# Altium integrated library Nhúng.IntLib: 12 symbols
Pins are listed as number, name and electrical type; pins without a type are passive.

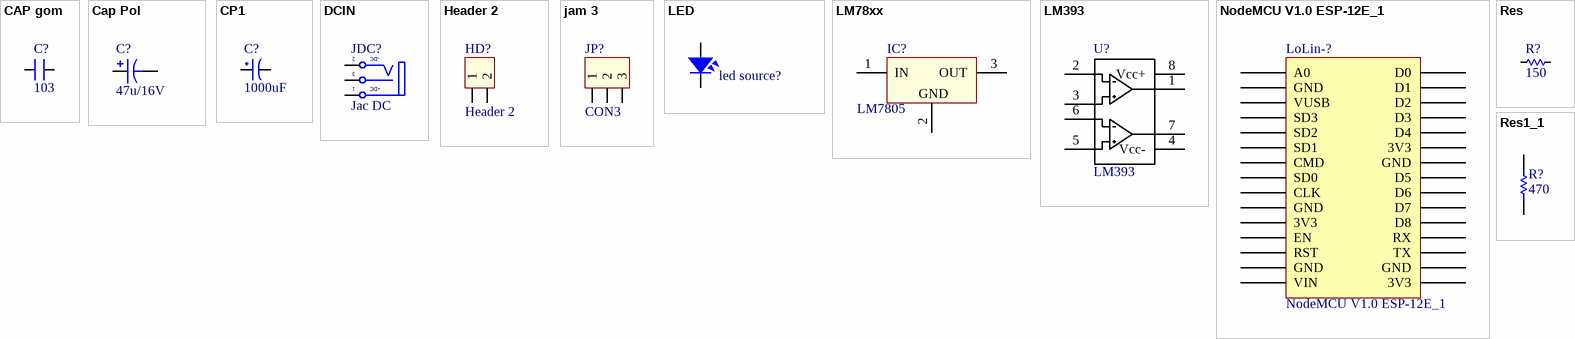
[diagram p0: symbols CAP gom to Res1_1]

## CAP gom
designator C?, comment 103
footprint CN1
footprint CN1.5
footprint CN2
footprint CN3 (Cap np W 0.3)
footprint CN4 (Cap np W 0.4)
footprint CN (Tu loc 220)
footprint CN2.5 (Tu pin to pin 250mil)
pins: 1, 2

## Cap Pol
designator C?, comment 47u/16V
Polarized Capacitor (Axial); Published: 8-Jun-2000; LatestRevisionDate: 17-Jul-2002; LatestRevisionNote: Re-released for DXP Platform.; PackageReference: POLAR0.8; Publisher: Altium Limited
footprint C3MM
footprint C5mm
footprint C8mm
footprint C10mm
footprint C12mm
pins: 1, 2
1 alternate drawing of the same symbol

## CP1
designator C?, comment 1000uF
Cap P  0,1uF < 22uF , 16 - 50V; Value: 10uF/50V; Description 1: 10 => 220uF/6,3V/10V - 10uF => 100uF/16V; Description 2: 0,1uF => 33uF/50V - 10uF => 22uF/63V; Description 3: 0,47uF => 10uF/100V
footprint CP1/2 (Tu hoa < 22uF/16>50V)
pins: 1, 2
1 alternate drawing of the same symbol

## DCIN
designator JDC?, comment Jac DC
Jac DC input; Value: Jac DC
footprint DC-IN (Jac DC input)
pins: 1 T "Tip", 2 TN "Tip Normal (Break Contact)", 3 S (power) "Sleeve (Ground)"
text: -DC; +DC

## Header 2
designator HD?
Header 2 (Green); Value: Header 2
footprint HED2 (Header 2, 2 pin, hight 300mil, Pin to Pin 200, Colour Green)
footprint HED2T (Header 2, 2 pin, hight 300mil, Pin to Pin 200, Colour Green)
footprint HED2B (Header 2, 2 pin, hight 300mil, Pin to Pin 150, Colour White)
footprint HED2V (Header 6)
pins: 1, 2

## jam 3
designator JP?, comment CON3
jam 3; Value: Connector 3
footprint jam3
footprint HDR1X3H (Connector; Header; 3 Position; Right Angle)
footprint HDR1X3 (Connector; Header; 3 Position)
pins: 1, 2, 3

## LED
designator led source?  (value not drawn)
LED Single colour Green and Red; Value: LED 3 ly Single Colour
footprint LED-5-BLUE (LED 2 PIN, 5 ly , Only colour, pin to pin 110mil)
footprint LED-5-Green (LED 2 PIN, 5 ly , Only colour,pin to pin 100mil)
footprint LED-5-RED (LED 2 PIN, 5 ly , Only colour,pin to pin 100mil)
footprint LED-5-WHITE (LED 2 PIN, 5 ly , Only colour, pin to pin 110mil)
footprint LED-5-Yellow (LED 2 PIN, 5 ly , Only colour,pin to pin 100mil)
footprint LED-3 (LED 2 PIN, 3ly Only colour)
pins: 1, 2

## LM78xx
designator IC?, comment LM7805
On ap +, from + 5 to + 24VDC; Value: LM7805
footprint QTO-220 (TO-220 - 1-2-3)
footprint QTO-92 (TO-92)
footprint QTO-220H1 (TO-220 - 1-2-3)
footprint TO-252 (D-PAK/TO-252-AA; 3 Leads (1 Cropped); Body 10.3 (inc. leads) x 6.7 mm (LxW max))
pins: 1 IN, 2 GND, 3 OUT

## LM393
designator U?
IC DUAL COMPARATOR
footprint SO8 (SOIC, 8-Leads, Body 4.9x3.9mm, Pitch 1.27mm, IPC High Density)
footprint DIP8
pins: 1, 2, 3, 4 Vcc-, 5, 6, 7, 8 Vcc+

## NodeMCU V1.0 ESP-12E_1
designator LoLin-?
LoLin NodeMCU V3
footprint LoLin NodeMcu V3
footprint LoLin (+ NodeMCU)
pins: 3V3, 3V3, 3V3, A0, CLK, CMD, D0, D1, D2, D3, D4, D5, D6, D7, D8, EN, GND, GND, GND, GND, GND, RST, RX, SD0, SD1, SD2, SD3, TX, VIN, VUSB

## Res
designator R?, comment 150
Res; Manufacturer: Generic Components; Class: Passive; SubClass: R; Published: 08/06/2000; Publisher: Altium Hobart Technology Centre
footprint RES-1/2W
footprint RES-1/4W
footprint RES-1/4W-SMALL
footprint RES-1/4WD
footprint RES-1/8W
footprint RES-1/8W-SMALL (R 1/8W, 2 pin, 200mil)
footprint RES-1/8WD
footprint RES-1W
footprint RES-1W-LONG
footprint RES-1WD
footprint RES-2W (R2W, 2 pin, 700mil)
footprint RES-5W (R5W , 2 pin, 400 x 950mil)
footprint RES-5WD (R5W , 2 pin, 300 x 600 mil)
footprint RES-1/8W-SMALL-2 (R 1/8W, 2 pin, 200mil)
pins: 1, 2

## Res1_1
designator R?, comment value 470  (hidden comment: Res1)
Resistor; Manufacturer: Generic Components; Class: Passive; Published: 08/06/2000; Publisher: Altium Hobart Technology Centre; SubClass: Resistor
footprint TRO_NHO
simulation model RESISTOR (Resistor)
signal-integrity model Res1
footprint R1/4W
pins: 1, 2